# Altium footprint library EL.XXX.T01.PcbLib: 92 footprints (part 6 of 6)
Each footprint in its own frame and in the unit in brackets; x right, y up, seen from the top. Pads: shape width x height; smd on the part's side, far side on the other; paste and mask are expansions set on the pad; w line width, h text height; cw(c..) or ccw(c..) is an arc to the next point about the centre after c.
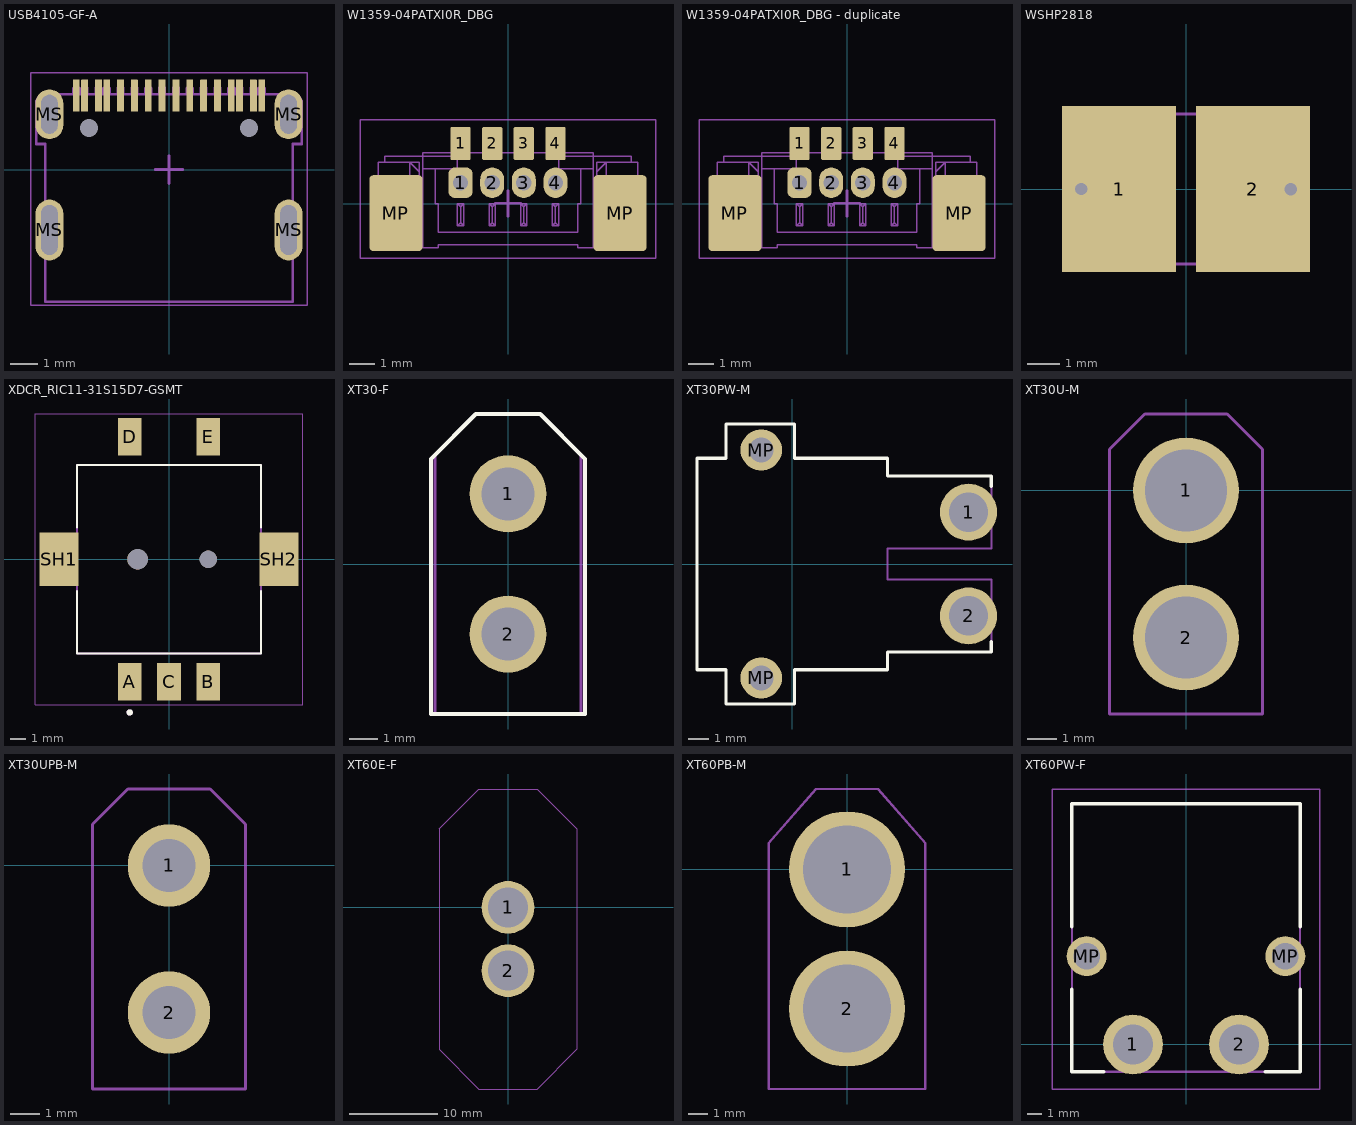
[diagram p5: the footprints below, top view; thin cyan lines are the x and y axes]

## USB4105-GF-A [mm]
pads (22):
  rrect10% 0.25x1.15 smd mask+0.05: A1(-3.35,2.675) A4(-2.55,2.675) A5(-1.25,2.675) A6(-0.25,2.675) A7(0.25,2.675) A8(1.25,2.675) A9(2.55,2.675) A12(3.35,2.675) B1(3.05,2.675) B4(2.25,2.675) B5(1.75,2.675) B6(0.75,2.675) B7(-0.75,2.675) B8(-1.75,2.675) B9(-2.25,2.675) B12(-3.05,2.675)
  round 0 hole 0.65 unplated paste-2539.97 mask+0.05: MH(-2.89,1.5) MH(2.89,1.5)
  oval 1x2.2 hole 0.6 slot 1.8 at 90 deg mask+0.05: MS(-4.32,-2.18) MS(4.32,-2.18)
  oval 1x1.8 hole 0.6 slot 1.4 at 90 deg mask+0.05: MS(-4.32,2) MS(4.32,2)
Top Courtyard:
  lines w0.05: -5,-4.9 -5,3.5 5,3.5 5,-4.9 1.2,-4.9 -5,-4.9
  lines w0.1: -0.5,0 0.5,0 ; 0,-0.5 0,0.5
Top Designator:
  text ".Designator" at 0,-0.75 h0.5
Top Assembly:
  lines w0.1: -4.075,2.72 -3.19,2.72 -2.35,2.72 ; -4.019,2.72 -4.47,2.72 ccw(c-4.47,2.39) -4.8,2.39 -4.8,0.925 -4.475,0.925 -4.475,-4.775 -4.21,-4.775 2.17,-4.775 4.475,-4.775 4.475,0.925 4.8,0.925 4.8,2.39 ccw(c4.47,2.39) 4.47,2.72 4.019,2.72 3.19,2.72 2.391,2.72 1.341,2.72 ; -3.45,2.72 -3.45,2.95 -3.25,2.95 -3.25,2.72 ; -3.15,2.72 -3.15,2.95 -2.95,2.95 -2.95,2.72 ; -2.65,2.72 -2.65,2.95 -2.45,2.95 -2.45,2.72 ; -2.15,2.72 -2.15,2.95 -2.35,2.95 -2.35,2.72 ; -1.85,2.72 -1.85,2.95 -1.65,2.95 -1.65,2.72 ; -1.35,2.72 -1.35,2.95 -1.15,2.95 -1.15,2.72 ; -0.85,2.72 -0.85,2.95 -0.65,2.95 -0.65,2.72 ; -0.35,2.72 -0.35,2.95 -0.15,2.95 -0.15,2.72 ; 0.15,2.72 0.15,2.95 0.35,2.95 0.35,2.72 ; 0.65,2.72 0.65,2.95 0.85,2.95 0.85,2.72 ; 1.15,2.72 1.15,2.95 1.35,2.95 1.35,2.72 -1.009,2.72 -1.341,2.72 -2.35,2.72 ; 1.65,2.72 1.65,2.95 1.85,2.95 1.85,2.72 ; 2.15,2.72 2.15,2.95 2.35,2.95 2.35,2.72 ; 2.45,2.72 2.45,2.95 2.65,2.95 2.65,2.72 ; 2.95,2.72 2.95,2.95 3.15,2.95 3.15,2.72 ; 3.25,2.72 3.25,2.95 3.45,2.95 3.45,2.72
Top Value:
  text ".Comment" at -1,1.5 h0.5
3D body "USB4105-GF-A--3DModel-STEP-56544.STEP": height 3.31, standoff -0.85, extent -4.79,-4.779 4.79,2.931

## W1359-04PATXI0R_DBG [mm]
pads (10):
  rrect50% 0.95x1.2 hole 0.6 paste-2539.97 mask+0.05: 1(-1.875,0.825)
  rrect15% 0.8x1.3 smd paste+0 mask+0.05: 1(-1.875,2.375) 2(-0.625,2.375) 3(0.625,2.375) 4(1.875,2.375)
  oval 0.95x1.2 hole 0.6 paste-2539.97 mask+0.05: 2(-0.625,0.825) 3(0.625,0.825) 4(1.875,0.825)
  rrect15% 2.1x3 smd paste+0 mask+0.05: MP(-4.425,-0.375) MP(4.425,-0.375)
Top Courtyard:
  lines w0.05: -5.842,-2.153 -5.842,3.308 5.842,3.308 5.842,-2.153 -5.842,-2.153
  lines w0.1: -0.5,0.006 0.5,0.006 ; 0,-0.494 0,0.506
Top Designator:
  text ".Designator" at -1.975,4.375 h0.5
Top Assembly:
  lines w0.05: -4.875,1.625 -4.875,1.875 -3.375,1.875 -2,1.875 -2,1.375 -3.375,1.375 ; -3.5,1.25 -3.875,1.625 -3.875,-1.75 ; -3.375,-1.5 -3.5,-1.375 ; -2.875,1.375 -2.875,0 -2.75,0 -2.75,-1.125 2.75,-1.125 2.75,0 2.875,0 2.875,1.375 ; -2,2 -2,2.125 -1.75,2.125 -1.75,2 ; -0.75,2 -0.75,2.125 -0.5,2.125 -0.5,2 ; 0.5,2 0.5,2.125 0.75,2.125 0.75,2 ; 1.75,2 1.75,2.125 2,2.125 2,2 ; 3.375,-1.5 3.5,-1.375 ; 3.375,1.375 2,1.375 2,1.875 3.375,1.875 4.875,1.875 4.875,1.625 ; 3.5,1.25 3.875,1.625 3.875,-1.75 ; -3.875,-1.75 -3.5,-1.375 ; -3.875,-1.75 -5.125,-1.75 -5.125,1.625 -3.5,1.625 -3.5,-1.375 ; -2,-0.875 -2,0 ; -2,-0.875 -1.75,-0.875 ; -2,-0.875 -1.875,-0.75 ; -2,0 -1.75,0 ; -2,0 -1.875,-0.125 ; -1.875,-0.75 -1.875,-0.125 ; -1.875,-0.75 -1.75,-0.875 ; -1.875,-0.125 -1.75,0 ; -1.75,-0.875 -1.75,0 ; -0.75,-0.875 -0.75,0 ; -0.75,-0.875 -0.5,-0.875 ; -0.75,-0.875 -0.625,-0.75 ; -0.75,0 -0.5,0 ; -0.75,0 -0.625,-0.125 ; -0.625,-0.75 -0.625,-0.125 ; -0.625,-0.75 -0.5,-0.875 ; -0.625,-0.125 -0.5,0 ; -0.5,-0.875 -0.5,0 ; 0.5,-0.875 0.5,0 ; 0.5,-0.875 0.75,-0.875 ; 0.5,-0.875 0.625,-0.75 ; 0.5,0 0.75,0 ; 0.5,0 0.625,-0.125 ; 0.625,-0.75 0.625,-0.125 ; 0.625,-0.75 0.75,-0.875 ; 0.625,-0.125 0.75,0 ; 0.75,-0.875 0.75,0 ; 1.75,-0.875 1.75,0 ; 1.75,-0.875 2,-0.875 ; 1.75,-0.875 1.875,-0.75 ; 1.75,0 2,0 ; 1.75,0 1.875,-0.125 ; 1.875,-0.75 1.875,-0.125 ; 1.875,-0.75 2,-0.875 ; 1.875,-0.125 2,0 ; 2,-0.875 2,0 ; 3.5,-1.375 3.5,1.625 5.125,1.625 5.125,-1.75 3.875,-1.75 ; 3.5,-1.375 3.875,-1.75 ; -3.375,-1.75 -2.75,-1.75 -2.75,-1.625 2.75,-1.625 2.75,-1.75 3.375,-1.75 3.375,2 -3.375,2 -3.375,-1.75
Top Value:
  text ".Comment" at -1.95,3.725 h0.5
3D body "533980471.stp": height 4.77, standoff 0.03, extent -5.075,-1.594 5.075,2.606

## W1359-04PATXI0R_DBG - duplicate [mm]
pads (10):
  rrect50% 0.95x1.2 hole 0.6 paste-2539.97 mask+0.05: 1(-1.875,0.825)
  rrect15% 0.8x1.3 smd paste+0 mask+0.05: 1(-1.875,2.375) 2(-0.625,2.375) 3(0.625,2.375) 4(1.875,2.375)
  oval 0.95x1.2 hole 0.6 paste-2539.97 mask+0.05: 2(-0.625,0.825) 3(0.625,0.825) 4(1.875,0.825)
  rrect15% 2.1x3 smd paste+0 mask+0.05: MP(-4.425,-0.375) MP(4.425,-0.375)
Top Courtyard:
  lines w0.05: -5.842,-2.153 5.842,-2.153 5.842,3.308 -5.842,3.308 -5.842,-2.153
  lines w0.1: -0.5,0.006 0.5,0.006 ; 0,-0.494 0,0.506
Top Designator:
  text ".Designator" at -1.975,4.375 h0.5
Top Assembly:
  lines w0.05: -4.875,1.625 -4.875,1.875 -3.375,1.875 -2,1.875 -2,1.375 -3.375,1.375 ; -3.5,1.25 -3.875,1.625 -3.875,-1.75 ; -3.375,-1.5 -3.5,-1.375 ; -2.875,1.375 -2.875,0 -2.75,0 -2.75,-1.125 2.75,-1.125 2.75,0 2.875,0 2.875,1.375 ; -2,2 -2,2.125 -1.75,2.125 -1.75,2 ; -0.75,2 -0.75,2.125 -0.5,2.125 -0.5,2 ; 0.5,2 0.5,2.125 0.75,2.125 0.75,2 ; 1.75,2 1.75,2.125 2,2.125 2,2 ; 3.375,-1.5 3.5,-1.375 ; 3.375,1.375 2,1.375 2,1.875 3.375,1.875 4.875,1.875 4.875,1.625 ; 3.5,1.25 3.875,1.625 3.875,-1.75 ; -3.875,-1.75 -5.125,-1.75 -5.125,1.625 -3.5,1.625 -3.5,-1.375 ; -3.875,-1.75 -3.5,-1.375 ; -2,-0.875 -1.875,-0.75 ; -2,-0.875 -1.75,-0.875 ; -2,-0.875 -2,0 ; -2,0 -1.875,-0.125 ; -2,0 -1.75,0 ; -1.875,-0.75 -1.75,-0.875 ; -1.875,-0.75 -1.875,-0.125 ; -1.875,-0.125 -1.75,0 ; -1.75,-0.875 -1.75,0 ; -0.75,-0.875 -0.625,-0.75 ; -0.75,-0.875 -0.5,-0.875 ; -0.75,-0.875 -0.75,0 ; -0.75,0 -0.625,-0.125 ; -0.75,0 -0.5,0 ; -0.625,-0.75 -0.5,-0.875 ; -0.625,-0.75 -0.625,-0.125 ; -0.625,-0.125 -0.5,0 ; -0.5,-0.875 -0.5,0 ; 0.5,-0.875 0.625,-0.75 ; 0.5,-0.875 0.75,-0.875 ; 0.5,-0.875 0.5,0 ; 0.5,0 0.625,-0.125 ; 0.5,0 0.75,0 ; 0.625,-0.75 0.75,-0.875 ; 0.625,-0.75 0.625,-0.125 ; 0.625,-0.125 0.75,0 ; 0.75,-0.875 0.75,0 ; 1.75,-0.875 1.875,-0.75 ; 1.75,-0.875 2,-0.875 ; 1.75,-0.875 1.75,0 ; 1.75,0 1.875,-0.125 ; 1.75,0 2,0 ; 1.875,-0.75 2,-0.875 ; 1.875,-0.75 1.875,-0.125 ; 1.875,-0.125 2,0 ; 2,-0.875 2,0 ; 3.5,-1.375 3.875,-1.75 ; 3.5,-1.375 3.5,1.625 5.125,1.625 5.125,-1.75 3.875,-1.75 ; -3.375,-1.75 -3.375,2 3.375,2 3.375,-1.75 2.75,-1.75 2.75,-1.625 -2.75,-1.625 -2.75,-1.75 -3.375,-1.75
Top Value:
  text ".Comment" at -1.95,3.725 h0.5
3D body "533980471.stp": height 4.77, standoff 0.03, extent -5.075,-1.594 5.075,2.606

## WSHP2818 [mm]
pads (2):
  rect 3.5x5.1 smd: 1(-2.055,0) 2(2.055,0)
via 3.22,-0.007 diameter 0.762 hole 0.381
via -3.222,0 diameter 0.762 hole 0.381
Mechanical 15:
  lines w0.1: -3.55,-2.3 3.55,-2.3 3.55,2.3 -3.55,2.3 -3.55,-2.3
3D body "WSHM2818.stp": height 1.5, standoff 0, extent -3.548,-2.3 3.548,2.3

## XDCR_RIC11-31S15D7-GSMT [mm]
height 14.8
pads (9):
  rect 1.5x2.4 smd: A(-2.5,-7.8) B(2.5,-7.8) C(0,-7.8) D(-2.5,7.8) E(2.5,7.8)
  rect 2.5x3.4 smd: SH1(-7,0) SH2(7,0)
  round 1.3 hole 1.3 unplated: ""(-2,0)
  round 1.1 hole 1.1 unplated: ""(2.5,0)
Top Overlay:
  circle w0.2: c-2.5,-9.75 r0.1
  lines w0.127: -5.85,-2.02 -5.85,-6 5.85,-6 5.85,-2.02 ; -5.85,2.02 -5.85,6 5.85,6 5.85,2.02
Mechanical 13:
  circle w0.2: c-2.5,-9.75 r0.1
  lines w0.127: -5.85,-6 -5.85,6 5.85,6 5.85,-6 -5.85,-6
Mechanical 15:
  lines w0.05: -8.5,-9.25 -8.5,9.25 8.5,9.25 8.5,-9.25 -8.5,-9.25
3D body "RIC11-31S15D7-GSMT.stp": height 19.56, standoff -0.74, extent -7.5,-8.5 7.5,8.5

## XT30-F [mm]
pads (2):
  round 2.75 hole 1.9: 1(0,2.5) 2(0,-2.5)
Top Overlay:
  lines w0.15: -2.75,-5.35 -2.75,3.75 -1.15,5.35 1.15,5.35 2.75,3.75 2.75,-5.35 -2.75,-5.35
Top Designator:
  text ".Designator" at -1.75,6.5 h0.5
Top Assembly:
  circle w0.5: c0,2.5 r0.9
  circle w0.5: c0,-2.5 r0.9
  lines w0.1: -2.6,-5.35 -2.6,3.9 -1.15,5.35 1.149,5.35 2.6,3.899 2.6,-5.35 -2.6,-5.35
  text "1" at 1.9,1.75 h1.5
Top Value:
  text ".Comment" at -1.75,5.8 h0.5
3D body "XT-30F.STEP": height 11.6, standoff -3.2, extent -2.6,-5.35 2.6,5.35

## XT30PW-M [mm]
pads (4):
  round 2.75 hole 1.9: 1(8.5,2.5) 2(8.5,-2.5)
  round 2 hole 1.2: MP(-1.5,-5.5) MP(-1.5,5.5)
Top Overlay:
  lines w0.15: 9.6,-3.75 9.6,-4.25 4.6,-4.25 4.6,-5.1 0.1,-5.1 0.1,-6.75 -3.2,-6.75 -3.2,-5.1 -4.6,-5.1 -4.6,-3.75 -4.6,5.1 -3.2,5.1 -3.2,6.75 0.1,6.75 0.1,5.1 4.6,5.1 4.6,4.25 9.6,4.25 9.6,3.75
Top Designator:
  text ".Designator" at 0.4,2.15 h0.5
Top Assembly:
  lines w0.1: -4.6,-5.1 -4.6,5.1 -3.2,5.1 -3.2,6.75 0.1,6.75 0.1,5.1 4.6,5.1 4.6,4.25 9.6,4.25 9.6,0.75 4.6,0.75 4.6,-0.75 9.6,-0.75 9.6,-4.25 4.6,-4.25 4.6,-5.1 0.1,-5.1 0.1,-6.75 -3.2,-6.75 -3.2,-5.1 -4.6,-5.1
  text "1" at 5.7,1.9 h1.5
Top Value:
  text ".Comment" at 0.45,1.4 h0.5
3D body "XT30PW-M.STEP": height 5.05, standoff -1.95, extent -4.5,-6.65 9.45,6.65

## XT30U-M [mm]
pads (2):
  round 3.6 hole 2.8: 1(0,0) 2(0,-5)
Top Designator:
  text ".Designator" at -1.7,4.3 h0.5
Top Assembly:
  lines w0.1: -2.6,-7.6 -2.6,1.4 -1.4,2.6 1.4,2.6 2.6,1.4 2.6,-7.6 -2.6,-7.6
  text "1" at -2.05,0.35 h1
Top Value:
  text ".Comment" at -1.7,3.4 h0.5
3D body "XT30U-M.step": height 12.6, standoff -2.9, extent -2.595,-7.75 2.705,2.65

## XT30UPB-M [mm]
pads (2):
  round 2.8 hole 1.8: 1(0,0) 2(0,-5)
Top Designator:
  text ".Designator" at -1.7,4.3 h0.5
Top Assembly:
  lines w0.1: -2.6,-7.6 2.6,-7.6 2.6,1.4 1.4,2.6 -1.4,2.6 -2.6,1.4 -2.6,-7.6
  text "1" at -2.05,0.35 h1
Top Value:
  text ".Comment" at -1.7,3.4 h0.5
3D body "xt30upb-m.STEP": height 9.4, standoff -2, extent -2.6,-7.6 2.6,2.6

## XT60E-F [mm]
pads (2):
  round 6 hole 4.55: 1(0,0) 2(0,-7.2)
Top Designator:
  text ".Designator" at -1.725,12.575 h0.5
Top Assembly:
  lines w0.127: -7.853,8.941 -3.319,13.475 3.316,13.475 7.85,8.941 7.85,-16.141 ; -7.85,8.941 -7.85,-16.141 -3.316,-20.675 3.319,-20.675 7.853,-16.141
Top Value:
  text ".Comment" at -1.725,11.675 h0.5
3D body "XT60E-F.step": height 16, standoff -3.9, extent -7.85,-20.65 7.9,13.35

## XT60PB-M [mm]
pads (2):
  round 6 hole 4.55: 1(0,0) 2(0,-7.2)
Top Designator:
  text ".Designator" at -1.725,5.375 h0.5
Top Assembly:
  lines w0.127: -4.05,-11.35 4.05,-11.35 4.05,1.35 1.6,4.15 -1.6,4.15 -4.05,1.35 -4.05,-11.35
  text "1" at -3.7,0.15 h1
Top Value:
  text ".Comment" at -1.725,4.475 h0.5
3D body "XT60PB-M.STEP": height 16, standoff -4.5, extent -4.05,-11.35 4.05,4.15

## XT60PW-F [mm]
pads (4):
  round 4.05 hole 2.7: 1(-3.6,0) 2(3.6,0)
  round 2.7 hole 1.8: MP(-6.75,6) MP(6.75,6)
Top Overlay:
  lines w0.25: -7.75,3.75 -7.75,-1.85 -5.6,-1.85 ; -7.75,8 -7.75,16.35 7.75,16.35 7.75,8 ; 5.4,-1.85 7.75,-1.85 7.75,3.75
Top Designator:
  text ".Designator" at -1.8,10.15 h0.5
Top Assembly:
  circle w0.05: c6.75,6 r1
  circle w0.05: c-6.75,6 r1
  circle w0.2: c3.6,0 r1.4
  circle w0.2: c-3.6,-0.05 r1.4
  lines w0.15: -7.75,-1.85 -7.75,16.35 7.75,16.35 7.75,-1.85 -7.75,-1.85
Bottom Value:
  lines w0.1: -9.1,-3.025 -9.1,17.35 9.1,17.35 9.1,-3.025 -9.1,-3.025
Top Value:
  text ".Comment" at -1.75,9.4 h0.5
3D body "XT60PW-M.stp": height 8.4, standoff -2.55, extent -7.95,-1.95 7.95,15.35